# EAGLE library part MPXV5004G (library mpx-freescale)
Integrated Silicon Pressure Sensor On-Chip Signal Conditioned, Temperature Compensated and Calibrated INTEGRATED PRESSURE SENSOR 0 TO 3.92 kPA (0 TO 400 mm H2O) 1.0 TO 4.9 V OUTPUT
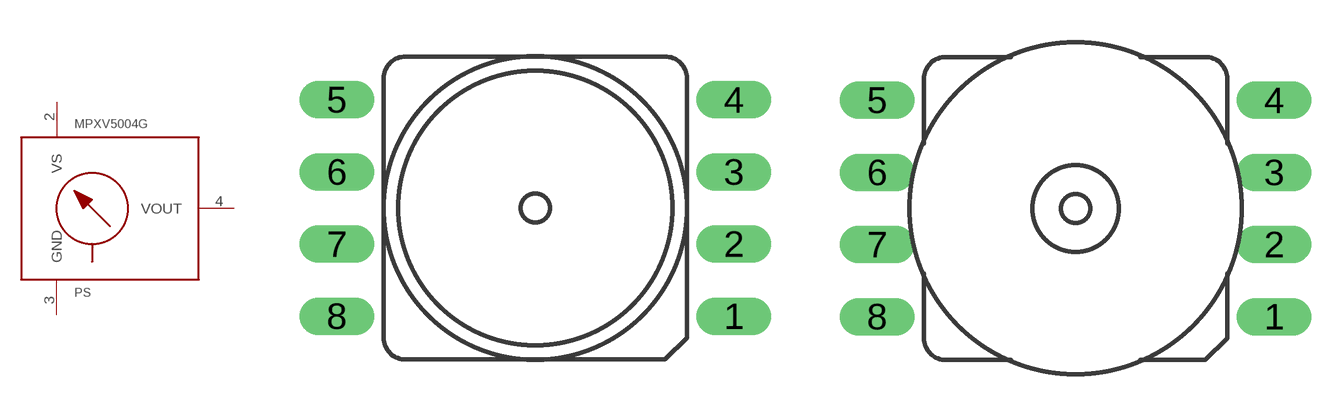
[diagram p2: symbol with the pads of 482B; footprints 482B, 482C]

Designator prefix PS

## MPXV5004G7U  [482B]
1  NC  nc
2  VS  pwr
3  GND  pwr
4  VOUT  out
5  NC  nc
6  NC  nc

## MPXV5004GC7U  [482C]
Pads as for 482B

## MPXV5004G6U  [482]
Pads as for 482B

## MPXV5004GC6U  [482A]
Pads as for 482B

## MPXV5004GDP  [1351]
Pads as for 482B

## MPXV5004GVP  [1368]
Pads as for 482B

## MPXV5004GP  [1369]
Pads as for 482B

## Footprint 482B (pad centres in mm)
Small Outline Package Through-Hole 482B-03
drill 0.813 long: 1 6.985,-3.81; 2 6.985,-1.27; 3 6.985,1.27; 4 6.985,3.81; 5 -6.985,3.81; 6 -6.985,1.27; 7 -6.985,-1.27; 8 -6.985,-3.81

## Footprint 482C (pad centres in mm)
Small Outline Package Through-Hole 482C-03
drill 0.813 long: 1 6.985,-3.81; 2 6.985,-1.27; 3 6.985,1.27; 4 6.985,3.81; 5 -6.985,3.81; 6 -6.985,1.27; 7 -6.985,-1.27; 8 -6.985,-3.81

## Footprint 482 (pad centres in mm)
Small Outline Package 482-01
smd 2.54 x 1.524: 1 8.382,-3.81; 2 8.382,-1.27; 3 8.382,1.27; 4 8.382,3.81; 5 -8.382,3.81; 6 -8.382,1.27; 7 -8.382,-1.27; 8 -8.382,-3.81

## Footprint 482A (pad centres in mm)
Small Outline Package 482A-01
smd 2.54 x 1.524: 1 8.382,-3.81; 2 8.382,-1.27; 3 8.382,1.27; 4 8.382,3.81; 5 -8.382,3.81; 6 -8.382,1.27; 7 -8.382,-1.27; 8 -8.382,-3.81

## Footprint 1351 (pad centres in mm)
Small Outline Package 1351-01 Dual Port
smd 2.54 x 1.524: 1 8.382,-3.81; 2 8.382,-1.27; 3 8.382,1.27; 4 8.382,3.81; 5 -8.382,3.81; 6 -8.382,1.27; 7 -8.382,-1.27; 8 -8.382,-3.81

## Footprint 1368 (pad centres in mm)
Small Outline Package 1368-01
smd 2.54 x 1.524: 1 8.382,-3.81; 2 8.382,-1.27; 3 8.382,1.27; 4 8.382,3.81; 5 -8.382,3.81; 6 -8.382,1.27; 7 -8.382,-1.27; 8 -8.382,-3.81

## Footprint 1369 (pad centres in mm)
Small Outline Package 1369-01 Side Port
smd 2.54 x 1.524: 1 8.382,-3.81; 2 8.382,-1.27; 3 8.382,1.27; 4 8.382,3.81; 5 -8.382,3.81; 6 -8.382,1.27; 7 -8.382,-1.27; 8 -8.382,-3.81